# Altium footprint library GC9A01.PcbLib: 1 footprints
Each footprint in its own frame and in the unit in brackets; x right, y up, seen from the top. Pads: shape width x height; smd on the part's side, far side on the other; paste and mask are expansions set on the pad; w line width, h text height; cw(c..) or ccw(c..) is an arc to the next point about the centre after c.
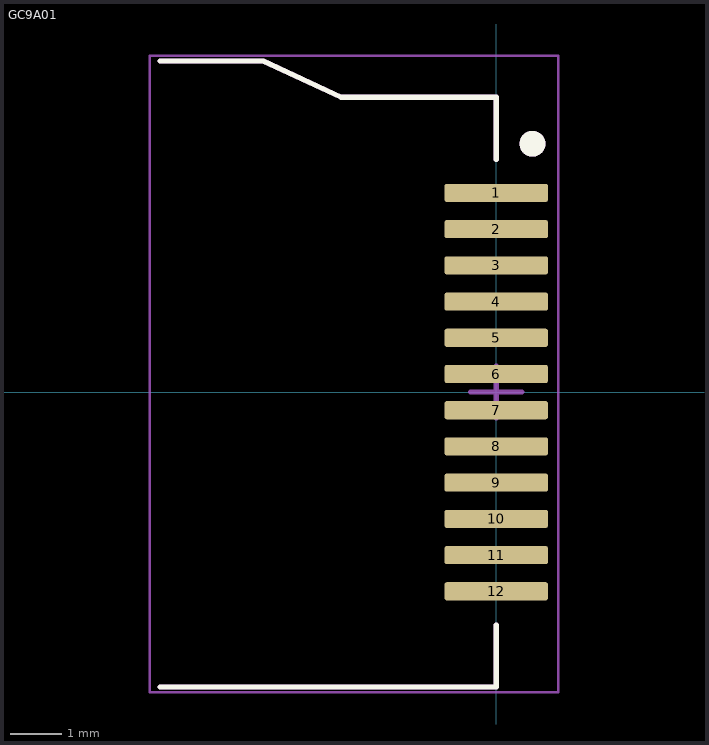
[diagram p0: the footprint, top view; thin cyan lines are the x and y axes]

## GC9A01 [mm]
pads (12):
  rrect25% 2x0.35 smd: 1(0,3.85) 2(0,3.15) 3(0,2.45) 4(0,1.75) 5(0,1.05) 6(0,0.35) 7(0,-0.35) 8(0,-1.05) 9(0,-1.75) 10(0,-2.45) 11(0,-3.15) 12(0,-3.85)
Top Overlay:
  circle w0.25: c0.7,4.8 r0.125
  lines w0.1: -6.5,-5.7 0,-5.7 0,-4.5 ; -6.5,6.4 -4.5,6.4 -3,5.7 0,5.7 0,4.5
Mechanical 1:
  circle w0.25: c0.7,4.8 r0.125
  lines w0.1: -6.5,-5.7 0,-5.7 0,-4.5 ; -6.5,6.4 -4.5,6.4 -3,5.7 0,5.7 0,4.5
  text ".Designator" at -1.304,-0.293 h0.65
Mechanical 2:
  lines w0.05: -6.7,-5.8 1.2,-5.8 1.2,6.5 -6.7,6.5 -6.7,-5.8
  lines w0.1: -0.5,0 0.5,0 ; 0,-0.5 0,0.5